# Altium integrated library cap_tan_1206.IntLib: 1 symbol
Pins are listed as number, name and electrical type; pins without a type are passive.

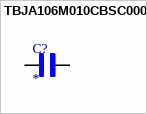
[diagram p0: symbol TBJA106M010CBSC0000]

## TBJA106M010CBSC0000
designator C?
Tantalum Capacitors; MF: AVX; MP: TBJA106M010CBSC0000; SnapEDA_Link: https://www.snapeda.com/parts/TBJA106M010CBSC0000/AVX/view-part/?ref=snap; Package: 1206 AVX; Value: *; Check_prices: https://www.snapeda.com/parts/TBJA106M010CBSC0000/AVX/view-part/?ref=eda
footprint CAPMP3216X166
pins: 1, 2